# Altium footprint library BatteryProtection.PcbLib: 1 footprints
Each footprint in its own frame and in the unit in brackets; x right, y up, seen from the top. Pads: shape width x height; smd on the part's side, far side on the other; paste and mask are expansions set on the pad; w line width, h text height; cw(c..) or ccw(c..) is an arc to the next point about the centre after c.
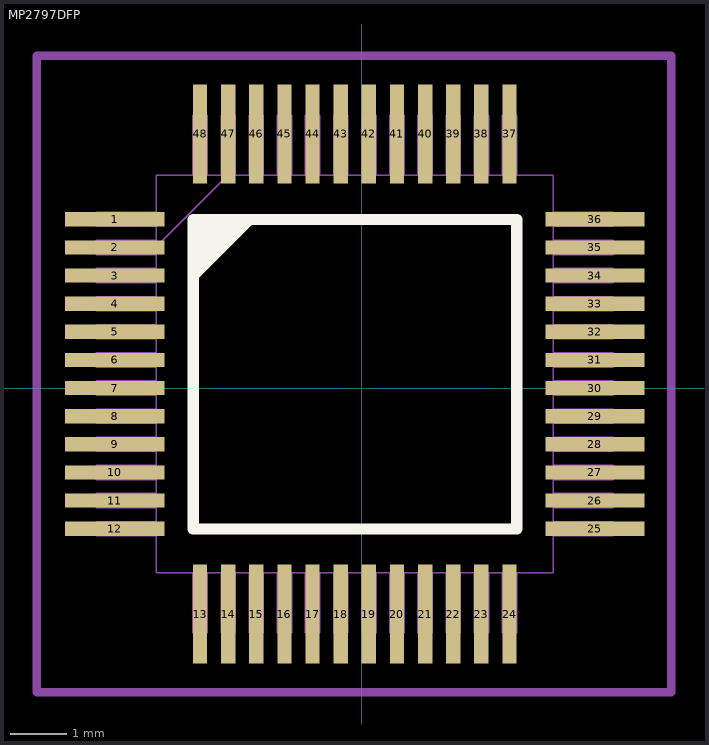
[diagram p0: the footprint, top view; thin cyan lines are the x and y axes]

## MP2797DFP [mil]
pads (48):
  rect 69.37x10 smd paste+0 mask+0: 1(-172.97,118.27) 2(-172.97,98.58) 3(-172.97,78.9) 4(-172.97,59.21) 5(-172.97,39.53) 6(-172.97,19.84) 7(-172.97,0.16) 8(-172.97,-19.53) 9(-172.97,-39.21) 10(-172.97,-58.9) 11(-172.97,-78.58) 12(-172.97,-98.27) 25(162.97,-98.27) 26(162.97,-78.58) 27(162.97,-58.9) 28(162.97,-39.21) 29(162.97,-19.53) 30(162.97,0.16) 31(162.97,19.84) 32(162.97,39.53) 33(162.97,59.21) 34(162.97,78.9) 35(162.97,98.58) 36(162.97,118.27)
  rect 10x69.37 smd paste+0 mask+0: 13(-113.27,-157.97) 14(-93.58,-157.97) 15(-73.9,-157.97) 16(-54.21,-157.97) 17(-34.53,-157.97) 18(-14.84,-157.97) 19(4.84,-157.97) 20(24.53,-157.97) 21(44.21,-157.97) 22(63.9,-157.97) 23(83.58,-157.97) 24(103.27,-157.97) 37(103.27,177.97) 38(83.58,177.97) 39(63.9,177.97) 40(44.21,177.97) 41(24.53,177.97) 42(4.84,177.97) 43(-14.84,177.97) 44(-34.53,177.97) 45(-54.21,177.97) 46(-73.9,177.97) 47(-93.58,177.97) 48(-113.27,177.97)
Top Overlay:
  lines w7.87: -118.11,88.58 -88.58,118.11 ; -118.11,108.27 -98.43,118.11 -118.11,98.43 -88.58,118.11 ; -88.58,118.11 -78.74,118.11 -118.11,78.74 -88.58,118.11 ; -118.11,-98.43 108.27,-98.43 108.27,118.11 -118.11,118.11 -118.11,-98.43
Mechanical 13:
  drawing of 197 lines, arcs and shapes, not listed
  text "*" at -141.5,103.11 h50
Mechanical 15:
  lines w6: -227.65,-212.65 -138.27,-212.65 216.54,-212.65 216.54,-172.17 216.54,-123.27 216.54,143.27 216.54,169 216.54,232.65 -227.65,232.65 -227.65,169 -227.65,143.27 -227.65,-123.27 -227.65,-212.65
3D body "TQFP-48_MP2797_MNP.step": height 47.09, standoff 0, extent -185.98,-170.98 175.98,190.98